# EAGLE library part AP1501 (library kwoo)
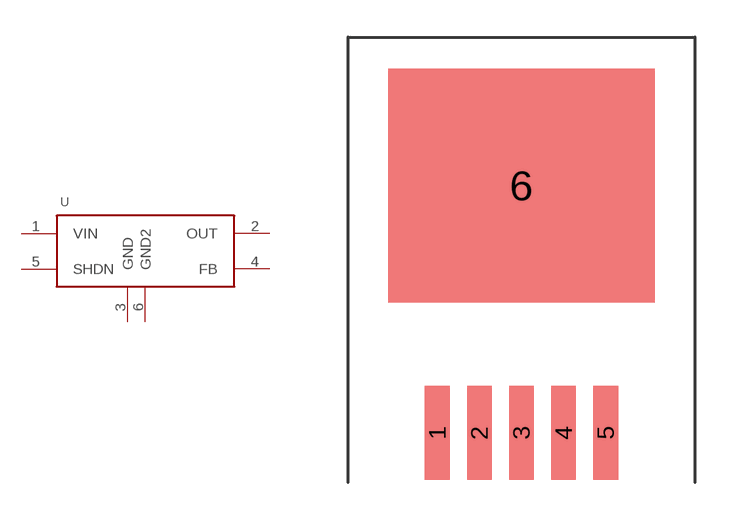
[diagram p53: symbol with the pads of DD2PAK; footprint DD2PAK]

Designator prefix -

## AP1501  [DD2PAK]
1  VIN
2  OUT
3  GND
4  FB
5  SHDN
6  GND2

## Footprint DD2PAK (pad centres in mm)
smd 1 x 3.8: 1 -3.4,-10; 2 -1.7,-10; 3 0,-10; 4 1.7,-10; 5 3.4,-10
smd 10.75 x 9.45: 6 0,0